# Altium footprint library Seeed-OPL-Diode.PCBLIB: 38 footprints (part 2 of 3)
Each footprint in its own frame and in the unit in brackets; x right, y up, seen from the top. Pads: shape width x height; smd on the part's side, far side on the other; paste and mask are expansions set on the pad; w line width, h text height; cw(c..) or ccw(c..) is an arc to the next point about the centre after c.
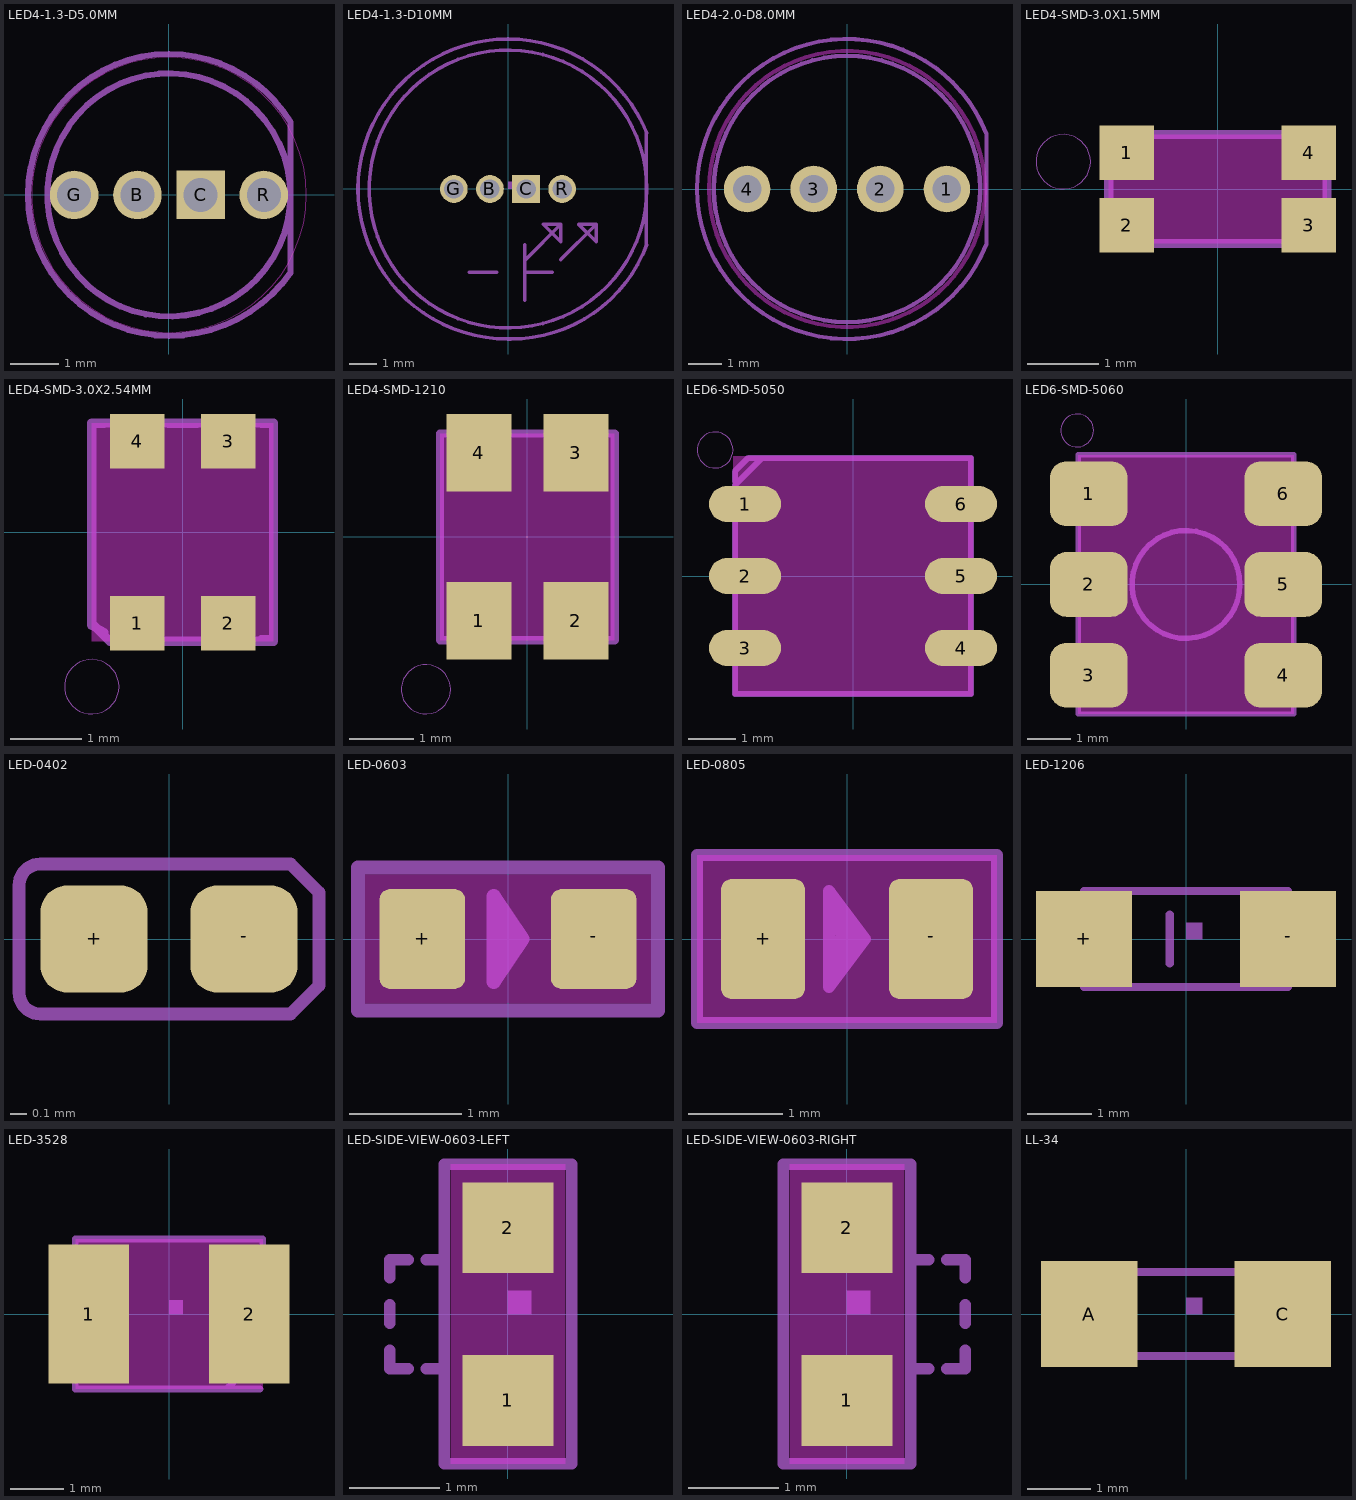
[diagram p1: the footprints below, top view; thin cyan lines are the x and y axes]

## LED4-1.3-D5.0MM [mm]
pads (4):
  round 1 hole 0.7: B(-0.65,0) G(-1.95,0) R(1.95,0)
  rect 1x1 hole 0.7: C(0.65,0)
Keep-Out Layer:
  circle w0: c0,0 r2.829
Mechanical 2:
  circle w0.127: c0,0 r2.5
  lines w0.127: -2.9,0 cw(c0,0) 0,2.9 cw(c0,-0.032) 2.5,1.5 2.5,-1.6 cw(c0,0.154) 0,-2.9 cw(c0,0) -2.9,0

## LED4-1.3-D10MM [mm]
pads (4):
  round 1 hole 0.7: B(-0.65,0) G(-1.95,0) R(1.95,0)
  rect 1x1 hole 0.7: C(0.65,0)
Mechanical 2:
  circle w0.127: c0,0 r5
  region: 0,0 0.254,0 0.254,0.254 0,0.254
  region: 0,0 0.254,0 0.254,0.254 0,0.254
  region: 0,0 0.254,0 0.254,0.254 0,0.254
  lines w0.127: -1.4,-3 -0.4,-3 ; 0.6,-4 0.6,-3 ; 0.6,-2 0.6,-3 ; 0.635,-2.54 1.905,-1.27 ; 1.6,-3 0.6,-3 ; 1.905,-2.54 3.175,-1.27 ; 4.98,-2.005 4.98,2.005 ; 5,-2 cw(c0.1,-0.169) 0.1,-5.4 0,-5.4 cw(c0,0) -5.4,0 cw(c0,0) 0,5.4 cw(c0,0.024) 5,2 ; 1.905,-1.27 1.27,-1.27 1.905,-1.905 1.905,-1.27 ; 3.175,-1.27 2.54,-1.27 3.175,-1.905 3.175,-1.27

## LED4-2.0-D8.0MM [mm]
pads (4):
  round 1.4 hole 0.85: 1(3,0) 2(1,0) 3(-1,0) 4(-3,0)
Keep-Out Layer:
  circle w0.127: c0,0 r4.147
Mechanical 2:
  circle w0.127: c0,0 r4
  lines w0.127: 4.191,-1.651 4.191,1.651 ccw(c0,0) 4.191,-1.651

## LED4-SMD-3.0X1.5MM [mil]
pads (4):
  rect 30x30 smd: 1(-50,20) 2(-50,-20) 3(50,-20) 4(50,20)
Keep-Out Layer:
  region: -60,30 -60,-30 60,-30 60,30
Mechanical 2:
  circle w0: c-85,15 r15
  lines w5: -31.5,-29.92 31.5,-29.92 ; -31.5,29.92 31.5,29.92
Mechanical 18:
  lines w5: -60,-30 -60,20 -50,30 60,30 60,-30 -60,-30

## LED4-SMD-3.0X2.54MM [mil]
pads (4):
  rect 30x30 smd: 1(-25,-50) 2(25,-50) 3(25,50) 4(-25,50)
Keep-Out Layer:
  rectangle: -50,-60 50,60
Mechanical 2:
  circle w0: c-50,-85 r15
  lines w5: -50,60 -50,59.84 ; -43.31,-55.12 -50,-51.18 -50,59.84 ; -43.31,59.84 -50,59.84 ; -7.87,-60 7.87,-60 ; -7.87,59.84 7.87,59.84 ; 43.31,-59.06 50,-59.06 ; 43.31,59.84 50,59.84 ; 50,-60 50,-59.06 ; 50,60 50,59.84 ; 50,-59.06 50,59.84
Mechanical 18:
  lines w5: -50,-50 -40,-60 50,-60 ; -50,60 50,60

## LED4-SMD-1210 [mm]
pads (4):
  rect 1x1.2 smd: 1(-0.75,-1.3) 2(0.75,-1.3) 3(0.75,1.3) 4(-0.75,1.3)
Keep-Out Layer:
  rectangle: -1.35,-1.6 1.35,1.6
Mechanical 2:
  circle w0: c-1.57,-2.359 r0.381
  lines w0.127: -1.3,-1.6 -1.35,-1.6 -1.35,1.6 -1.3,1.6 ; -0.2,-1.6 0.2,-1.6 ; -0.2,1.6 0.2,1.6 ; 1.3,-1.6 1.35,-1.6 1.35,1.6 1.3,1.6
Mechanical 18:
  lines w0.127: -1.35,-1.6 1.35,-1.6 1.35,1.6 -1.35,1.6 -1.35,-1.6

## LED6-SMD-5050 [mil]
pads (6):
  rrect100% 60x30 smd: 1(-90,60) 2(-90,0) 3(-90,-60) 4(90,-60) 5(90,0) 6(90,60)
Keep-Out Layer:
  region: 100,100 -100,100 -100,-100 100,-100
Mechanical 2:
  circle w0: c-115,105 r15
  lines w5: -98.43,-78.74 -98.43,-98.43 98.43,-98.43 98.43,-78.74 ; -98.43,-39.37 -98.43,-19.69 ; -98.43,19.69 -98.43,43.31 ; -98.43,78.74 -98.43,87.29 -87.29,98.43 98.43,98.43 98.43,78.74 ; 98.43,-43.31 98.43,-19.69 ; 98.43,19.69 98.43,39.37
Mechanical 18:
  lines w5: -98.43,-98.43 -98.43,75.63 -75.63,98.43 ; 98.43,-98.43 98.43,98.43

## LED6-SMD-5060 [mil]
pads (6):
  rrect50% 70.87x59.06 smd: 1(-88.58,82.68) 2(-88.58,0) 3(-88.58,-82.68) 4(88.58,-82.68) 5(88.58,0) 6(88.58,82.68)
Keep-Out Layer:
  rectangle: -98.43,-118.11 98.43,118.11
Mechanical 2:
  circle w0: c-99.25,140.43 r15
  circle w5: c0,0 r49.21
  lines w5: -98.43,-114.17 -98.43,-118.11 98.43,-118.11 98.43,-114.17 ; -98.43,-51.18 -98.43,-31.5 ; -98.43,31.5 -98.43,51.18 ; -98.43,114.17 -98.43,118.11 98.43,118.11 98.43,114.17 ; 98.43,-51.18 98.43,-31.5 ; 98.43,31.5 98.43,51.18
Mechanical 18:
  lines w5: -98.43,-118.11 98.43,-118.11 98.43,118.11 -98.43,118.11 -98.43,-118.11

## LED-0402 [mil]
pads (2):
  rrect50% 25x25 smd: +(-17.5,0) -(17.5,0)
Mechanical 2:
  lines w3: -35,-12.5 ccw(c-30,-12.5) -30,-17.5 28.32,-17.5 35,-10.82 35,10.82 28.32,17.5 -30,17.5 ccw(c-30,12.5) -35,12.5 -35,-12.5

## LED-0603 [mil]
pads (2):
  rrect25% 30x35 smd: +(-30,0) -(30,0)
Keep-Out Layer:
  rectangle: -50,-22.5 50,22.5
Mechanical 2:
  lines w5: -2.5,-10 -2.5,10 ; 0,-7.5 -5,-15 -5,15 0,7.5 ; 0,-7.5 5,0 0,7.5 ; 0,-7.5 0,7.5 ; -52.5,-25 52.5,-25 52.5,25 -52.5,25 -52.5,-25

## LED-0805 [mil]
pads (2):
  rrect25% 35x50 smd: +(-35,0) -(35,0)
Keep-Out Layer:
  rectangle: -62.5,-35 62.5,35
Mechanical 2:
  lines w5: -7.5,-10 -7.5,0 ; -7.5,-10 -7.5,-20 0,-10 ; -7.5,-10 0,-10 ; -7.5,0 -7.5,10 ; -7.5,0 2.5,-5 -7.5,10 ; -7.5,0 0,-10 ; -7.5,10 -7.5,20 ; -7.5,10 5,-2.5 -7.5,20 ; -7.5,20 7.5,0 0,-10 ; -62.5,-35 62.5,-35 62.5,35 -62.5,35 -62.5,-35

## LED-1206 [mil]
pads (2):
  rect 59.06x59.06 smd: +(-62.99,0) -(62.99,0)
Mechanical 2:
  region: 0,0 10,0 10,10 0,10
  lines w5: -31.5,-29.53 31.5,-29.53 ; -31.5,29.53 27.56,29.53 ; -10,-15 -10,15
Mechanical 18:
  lines w5: -62.99,-29.53 62.99,-29.53 62.99,29.53 -62.99,29.53 -62.99,-29.53

## LED-3528 [mil]
pads (2):
  rect 59.06x102.36 smd: 1(-59.06,0) 2(59.06,0)
Keep-Out Layer:
  rectangle: -68.9,-55.12 68.9,55.12
Mechanical 2:
  region: 0,0 10,0 10,10 0,10
  lines w5: -68.9,-55.12 42.25,-55.12 ; -68.9,55.12 68.9,55.12 ; 43.31,-55.12 66.93,-55.12
Mechanical 18:
  lines w5: -68.9,-55.12 -68.9,55.12 ; 42.25,-55.12 68.9,-28.47 68.9,55.12

## LED-SIDE-VIEW-0603-LEFT [mm]
pads (2):
  rect 1x1 smd: 1(0,-0.95) 2(0,0.95)
Keep-Out Layer:
  region: 0.635,-1.651 0.635,1.651 -0.635,1.651 -0.635,-1.651
Mechanical 2:
  region: 0,0 0.254,0 0.254,0.254 0,0.254
  lines w0.127: -1.3,-0.4 -1.3,-0.6 -1.1,-0.6 ; -1.3,-0.1 -1.3,0.1 ; -1.3,0.4 -1.3,0.6 -1.1,0.6 ; -0.9,-0.6 -0.7,-0.6 ; -0.9,0.6 -0.7,0.6 ; -0.7,-0.6 -0.7,-1.65 0.7,-1.65 0.7,1.651 -0.7,1.65 -0.7,0.6 ; -0.7,-0.6 -0.7,0.6

## LED-SIDE-VIEW-0603-RIGHT [mm]
pads (2):
  rect 1x1 smd: 1(0,-0.95) 2(0,0.95)
Keep-Out Layer:
  region: 0.635,-1.651 0.635,1.651 -0.635,1.651 -0.635,-1.651
Mechanical 2:
  region: 0,0 0.254,0 0.254,0.254 0,0.254
  lines w0.127: 0.7,-0.6 0.9,-0.6 ; 0.7,0.6 0.9,0.6 ; 1.1,-0.6 1.3,-0.6 1.3,-0.4 ; 1.1,0.6 1.3,0.6 1.3,0.4 ; 1.3,-0.1 1.3,0.1 ; -0.7,-1.65 -0.7,1.65 0.7,1.651 0.7,-1.65 -0.7,-1.65

## LL-34 [mil]
pads (2):
  rect 60x66 smd: A(-60,0) C(60,0)
Mechanical 2:
  region: 0,0 10,0 10,10 0,10
  lines w5: -27.56,-25.98 27.56,-25.98 ; -27.56,25.98 27.56,25.98
Mechanical 18:
  lines w5: -66,-26 66,-26 66,26 -66,26 -66,-26